# Altium schematic symbol library lcd panel.SchLib: 1 symbol
Pins are listed as number, name and electrical type; pins without a type are passive.

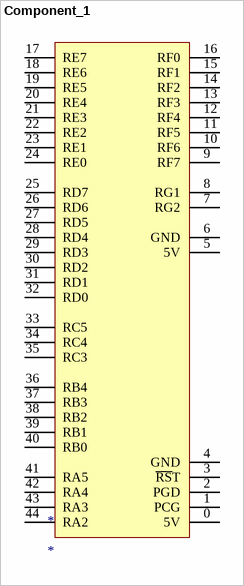
[diagram p0: symbol Component_1]

## Component_1
designator *
pins: 0 5V, 1 PCG, 2 PGD, 3 ~{RS}T, 4 GND, 5 5V, 6 GND, 7 RG2, 8 RG1, 9 RF7, 10 RF6, 11 RF5, 12 RF4, 13 RF3, 14 RF2, 15 RF1, 16 RF0, 17 RE7, 18 RE6, 19 RE5, 20 RE4, 21 RE3, 22 RE2, 23 RE1, 24 RE0, 25 RD7, 26 RD6, 27 RD5, 28 RD4, 29 RD3, 30 RD2, 31 RD1, 32 RD0, 33 RC5, 34 RC4, 35 RC3, 36 RB4, 37 RB3, 38 RB2, 39 RB1, 40 RB0, 41 RA5, 42 RA4, 43 RA3, 44 RA2